# Altium footprint library 613 0xx 143 121.PcbLib: 24 footprints (part 1 of 2)
Each footprint in its own frame and in the unit in brackets; x right, y up, seen from the top. Pads: shape width x height; smd on the part's side, far side on the other; paste and mask are expansions set on the pad; w line width, h text height; cw(c..) or ccw(c..) is an arc to the next point about the centre after c.
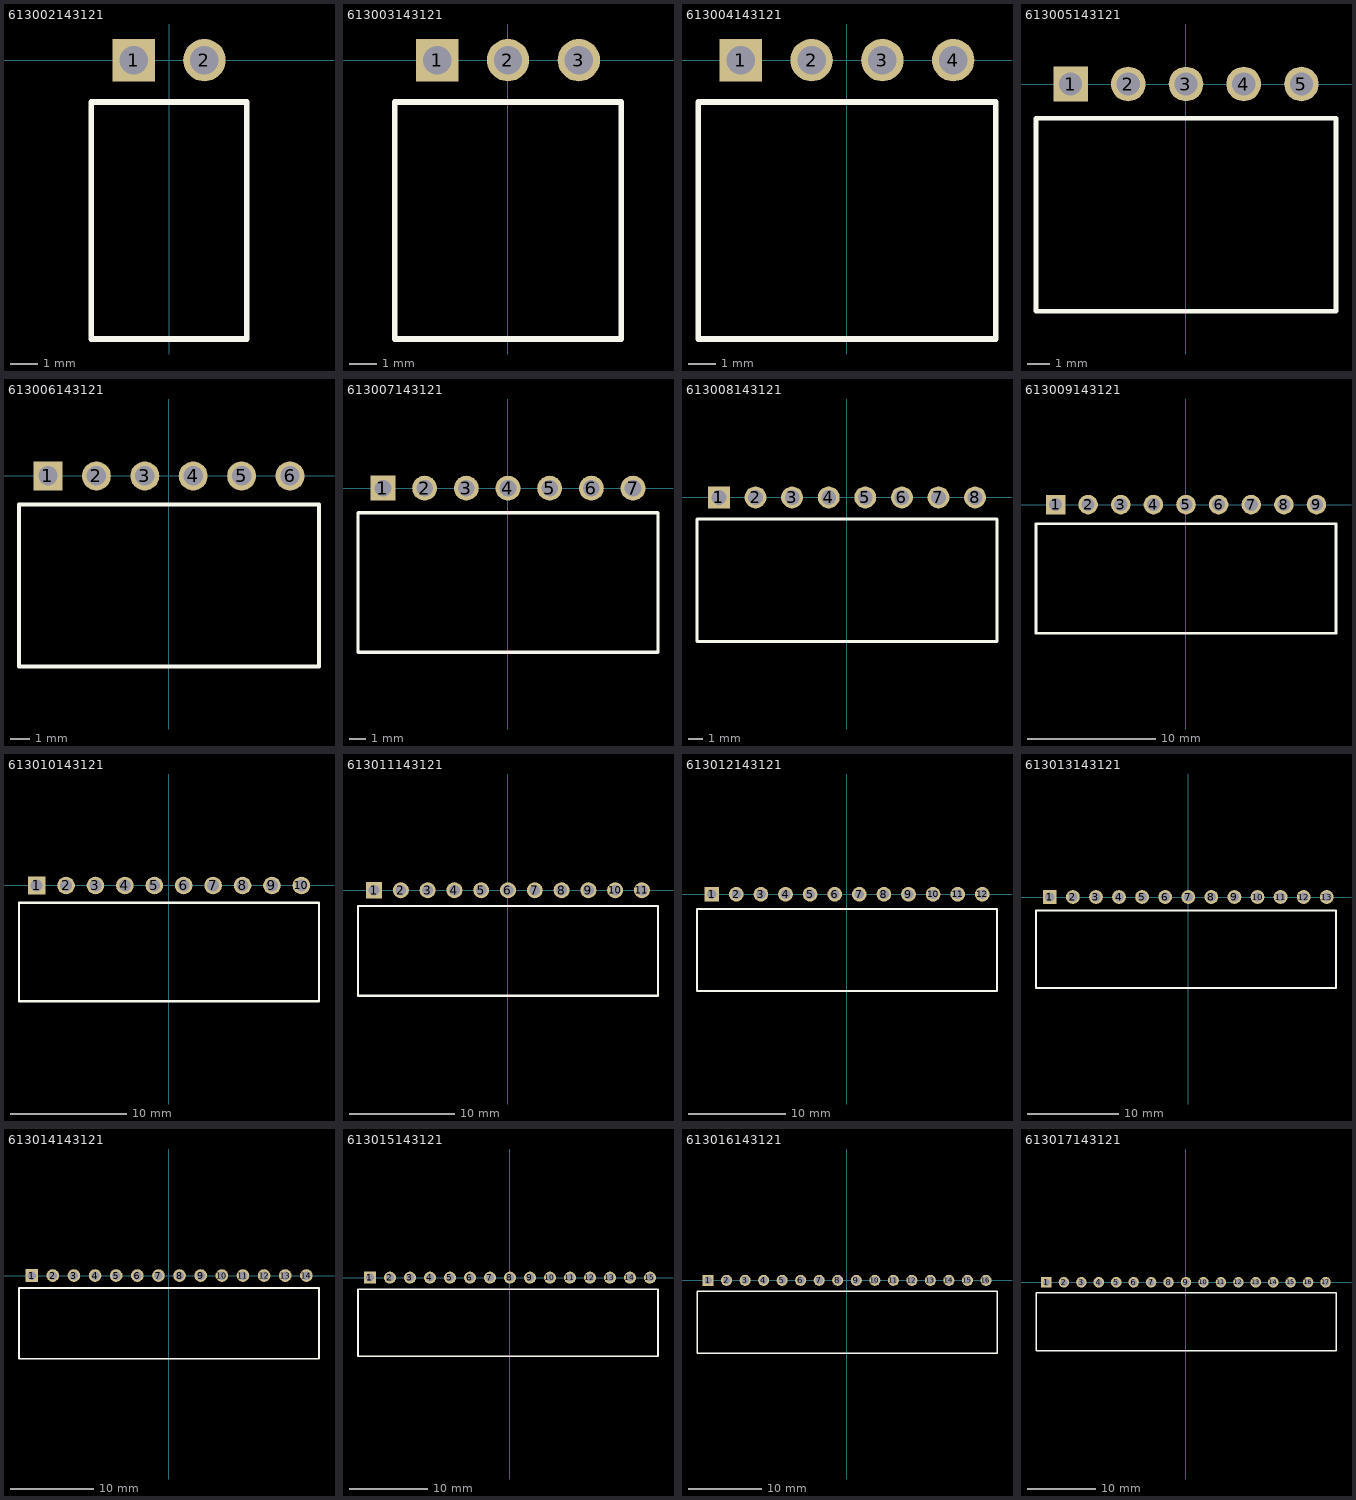
[diagram p0: the footprints below, top view; thin cyan lines are the x and y axes]

## 613002143121 [mm] "02p 1 row Right angle"
height 2.5
pads (2):
  rect 1.52x1.52 hole 1.02: 1(-1.27,0)
  round 1.52 hole 1.02: 2(1.27,0)
Top Overlay:
  lines w0.2: -2.79,-10 2.79,-10 2.79,-1.5 -2.79,-1.5 -2.79,-10
3D body "613002143121.stp": height 2.51, standoff -3.08, extent -2.79,-10 2.79,0

## 613003143121 [mm] "03p 1 row Right angle"
height 2.5
pads (3):
  rect 1.52x1.52 hole 1.02: 1(-2.54,0)
  round 1.52 hole 1.02: 2(0,0) 3(2.54,0)
Top Overlay:
  lines w0.2: -4.06,-10 -4.06,-1.5 4.06,-1.5 4.06,-10 -4.06,-10
3D body "613003143121.stp": height 2.51, standoff -3.08, extent -4.06,-10 4.06,0.3

## 613004143121 [mm] "04p 1 row Right angle"
height 2.5
pads (4):
  rect 1.52x1.52 hole 1.02: 1(-3.81,0)
  round 1.52 hole 1.02: 2(-1.27,0) 3(1.27,0) 4(3.81,0)
Top Overlay:
  lines w0.2: -5.33,-10 5.33,-10 5.33,-1.5 -5.33,-1.5 -5.33,-10
3D body "613004143121.stp": height 2.51, standoff -3.08, extent -5.33,-10 5.33,0.3

## 613005143121 [mm] "05p 1 row Right angle"
height 2.5
pads (5):
  rect 1.52x1.52 hole 1.02: 1(-5.08,0)
  round 1.52 hole 1.02: 2(-2.54,0) 3(0,0) 4(2.54,0) 5(5.08,0)
Top Overlay:
  lines w0.2: -6.6,-10 -6.6,-1.5 6.6,-1.5 6.6,-10 -6.6,-10
3D body "613005143121.stp": height 2.51, standoff -3.08, extent -6.6,-10 6.6,0.3

## 613006143121 [mm] "06p 1 row Right angle"
height 2.5
pads (6):
  rect 1.52x1.52 hole 1.02: 1(-6.35,0)
  round 1.52 hole 1.02: 2(-3.81,0) 3(-1.27,0) 4(1.27,0) 5(3.81,0) 6(6.35,0)
Top Overlay:
  lines w0.2: -7.87,-10 7.87,-10 7.87,-1.5 -7.87,-1.5 -7.87,-10
3D body "613006143121.stp": height 2.51, standoff -3.08, extent -7.87,-10 7.87,0.3

## 613007143121 [mm] "07p 1 row Right angle"
height 2.5
pads (7):
  rect 1.52x1.52 hole 1.02: 1(-7.62,0)
  round 1.52 hole 1.02: 2(-5.08,0) 3(-2.54,0) 4(0,0) 5(2.54,0) 6(5.08,0) 7(7.62,0)
Top Overlay:
  lines w0.2: -9.14,-10 -9.14,-1.5 9.14,-1.5 9.14,-10 -9.14,-10
3D body "613007143121.stp": height 2.51, standoff -3.08, extent -9.14,-10 9.14,0.3

## 613008143121 [mm] "08p 1 row Right angle"
height 2.5
pads (8):
  rect 1.52x1.52 hole 1.02: 1(-8.89,0)
  round 1.52 hole 1.02: 2(-6.35,0) 3(-3.81,0) 4(-1.27,0) 5(1.27,0) 6(3.81,0) 7(6.35,0) 8(8.89,0)
Top Overlay:
  lines w0.2: -10.41,-10 10.41,-10 10.41,-1.5 -10.41,-1.5 -10.41,-10
3D body "613008143121.stp": height 2.51, standoff -3.08, extent -10.41,-10 10.41,0.3

## 613009143121 [mm] "09p 1 row Right angle"
height 2.5
pads (9):
  rect 1.52x1.52 hole 1.02: 1(-10.16,0)
  round 1.52 hole 1.02: 2(-7.62,0) 3(-5.08,0) 4(-2.54,0) 5(0,0) 6(2.54,0) 7(5.08,0) 8(7.62,0) 9(10.16,0)
Top Overlay:
  lines w0.2: -11.68,-10 -11.68,-1.5 11.68,-1.5 11.68,-10 -11.68,-10
3D body "613009143121.stp": height 2.51, standoff -3.08, extent -11.68,-10 11.68,0.3

## 613010143121 [mm] "10p 1 row Right angle"
height 2.5
pads (10):
  rect 1.52x1.52 hole 1.02: 1(-11.43,0)
  round 1.52 hole 1.02: 2(-8.89,0) 3(-6.35,0) 4(-3.81,0) 5(-1.27,0) 6(1.27,0) 7(3.81,0) 8(6.35,0) 9(8.89,0) 10(11.43,0)
Top Overlay:
  lines w0.2: -12.95,-10 12.95,-10 12.95,-1.5 -12.95,-1.5 -12.95,-10
3D body "613010143121.stp": height 2.51, standoff -3.08, extent -12.95,-10 12.95,0

## 613011143121 [mm] "11p 1 row Right angle"
height 2.5
pads (11):
  rect 1.52x1.52 hole 1.02: 1(-12.7,0)
  round 1.52 hole 1.02: 2(-10.16,0) 3(-7.62,0) 4(-5.08,0) 5(-2.54,0) 6(0,0) 7(2.54,0) 8(5.08,0) 9(7.62,0) 10(10.16,0) 11(12.7,0)
Top Overlay:
  lines w0.2: -14.22,-10 -14.22,-1.5 14.22,-1.5 14.22,-10 -14.22,-10
3D body "613011143121.stp": height 2.51, standoff -3.08, extent -14.22,-10 14.22,0.3

## 613012143121 [mm] "12p 1 row Right angle"
height 2.5
pads (12):
  rect 1.52x1.52 hole 1.02: 1(-13.97,0)
  round 1.52 hole 1.02: 2(-11.43,0) 3(-8.89,0) 4(-6.35,0) 5(-3.81,0) 6(-1.27,0) 7(1.27,0) 8(3.81,0) 9(6.35,0) 10(8.89,0) 11(11.43,0) 12(13.97,0)
Top Overlay:
  lines w0.2: -15.49,-10 15.49,-10 15.49,-1.5 -15.49,-1.5 -15.49,-10
3D body "613012143121.stp": height 2.51, standoff -3.08, extent -15.49,-10 15.49,0.3

## 613013143121 [mm] "13p 1 row Right angle"
height 2.5
pads (13):
  rect 1.52x1.52 hole 1.02: 1(-15.24,0)
  round 1.52 hole 1.02: 2(-12.7,0) 3(-10.16,0) 4(-7.62,0) 5(-5.08,0) 6(-2.54,0) 7(0,0) 8(2.54,0) 9(5.08,0) 10(7.62,0) 11(10.16,0) 12(12.7,0) 13(15.24,0)
Top Overlay:
  lines w0.2: -16.76,-10 -16.76,-1.5 16.26,-1.5 16.26,-10 -16.76,-10
3D body "613013143121.stp": height 2.51, standoff -3.08, extent -16.76,-10 16.26,0.3

## 613014143121 [mm] "14p 1 row Right angle"
height 2.5
pads (14):
  rect 1.52x1.52 hole 1.02: 1(-16.51,0)
  round 1.52 hole 1.02: 2(-13.97,0) 3(-11.43,0) 4(-8.89,0) 5(-6.35,0) 6(-3.81,0) 7(-1.27,0) 8(1.27,0) 9(3.81,0) 10(6.35,0) 11(8.89,0) 12(11.43,0) 13(13.97,0) 14(16.51,0)
Top Overlay:
  lines w0.2: -18.03,-10 18.03,-10 18.03,-1.5 -18.03,-1.5 -18.03,-10
3D body "613014143121.stp": height 2.51, standoff -3.08, extent -18.03,-10 18.03,0.3

## 613015143121 [mm] "15p 1 row Right angle"
height 2.5
pads (15):
  rect 1.52x1.52 hole 1.02: 1(-17.78,0)
  round 1.52 hole 1.02: 2(-15.24,0) 3(-12.7,0) 4(-10.16,0) 5(-7.62,0) 6(-5.08,0) 7(-2.54,0) 8(0,0) 9(2.54,0) 10(5.08,0) 11(7.62,0) 12(10.16,0) 13(12.7,0) 14(15.24,0) 15(17.78,0)
Top Overlay:
  lines w0.2: -19.3,-10 -19.3,-1.5 18.8,-1.5 18.8,-10 -19.3,-10
3D body "613015143121.stp": height 2.51, standoff -3.08, extent -19.3,-10 18.8,0.3

## 613016143121 [mm] "16p 1 row Right angle"
height 2.5
pads (16):
  rect 1.52x1.52 hole 1.02: 1(-19.05,0)
  round 1.52 hole 1.02: 2(-16.51,0) 3(-13.97,0) 4(-11.43,0) 5(-8.89,0) 6(-6.35,0) 7(-3.81,0) 8(-1.27,0) 9(1.27,0) 10(3.81,0) 11(6.35,0) 12(8.89,0) 13(11.43,0) 14(13.97,0) 15(16.51,0) 16(19.05,0)
Top Overlay:
  lines w0.2: -20.57,-10 20.57,-10 20.57,-1.5 -20.57,-1.5 -20.57,-10
3D body "613016143121.stp": height 2.51, standoff -3.08, extent -20.57,-10 20.57,0.3

## 613017143121 [mm] "17p 1 row Right angle"
height 2.5
pads (17):
  rect 1.52x1.52 hole 1.02: 1(-20.32,0)
  round 1.52 hole 1.02: 2(-17.78,0) 3(-15.24,0) 4(-12.7,0) 5(-10.16,0) 6(-7.62,0) 7(-5.08,0) 8(-2.54,0) 9(0,0) 10(2.54,0) 11(5.08,0) 12(7.62,0) 13(10.16,0) 14(12.7,0) 15(15.24,0) 16(17.78,0) 17(20.32,0)
Top Overlay:
  lines w0.2: -21.84,-10 -21.84,-1.5 21.84,-1.5 21.84,-10 -21.84,-10
3D body "613017143121.stp": height 2.51, standoff -3.08, extent -21.84,-10 21.84,0.3